# Altium footprint library MergenElektronik_Screens_LCDs.PcbLib: 1 footprints
Each footprint in its own frame and in the unit in brackets; x right, y up, seen from the top. Pads: shape width x height; smd on the part's side, far side on the other; paste and mask are expansions set on the pad; w line width, h text height; cw(c..) or ccw(c..) is an arc to the next point about the centre after c.
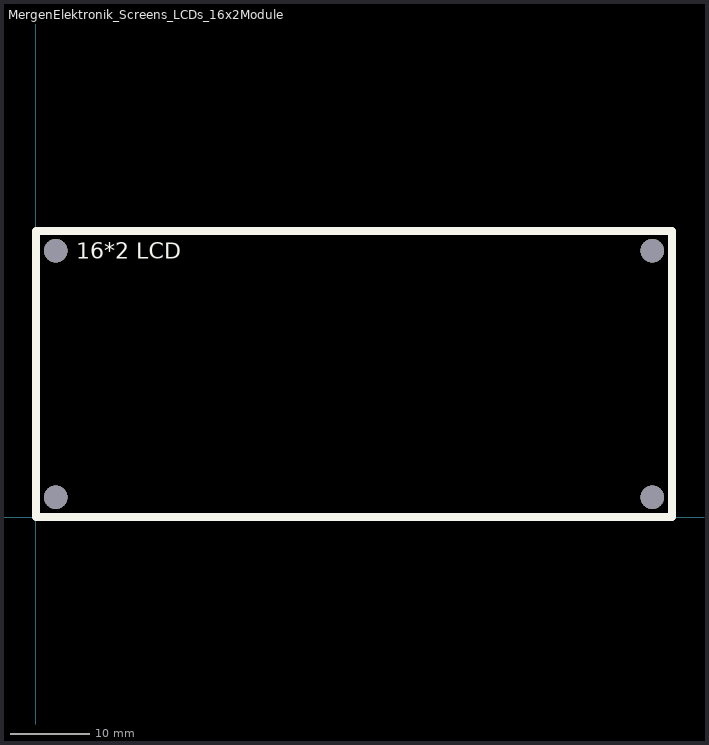
[diagram p0: the footprint, top view; thin cyan lines are the x and y axes]

## MergenElektronik_Screens_LCDs_16x2Module [mm] "16*2 LCD Module with Allen"
via 77.5,33.5 diameter 3 hole 3
via 77.5,2.5 diameter 3 hole 3
via 2.5,2.5 diameter 3 hole 3
via 2.5,33.5 diameter 3 hole 3
Top Overlay:
  lines w1: 0,0 80,0 80,36 0,36 0,0
  text "16*2 LCD" at 5.1,32.5 h2
3D body: height 13.59, standoff -1.75, extent 0,0 80.67,36.654